# EAGLE library part PTN78060W (library PT)
PTN78060W : 3-A, Wide-Input, Adjustable Switching Regulator Module http://www.ti.com/lit/gpn/ptn78060w
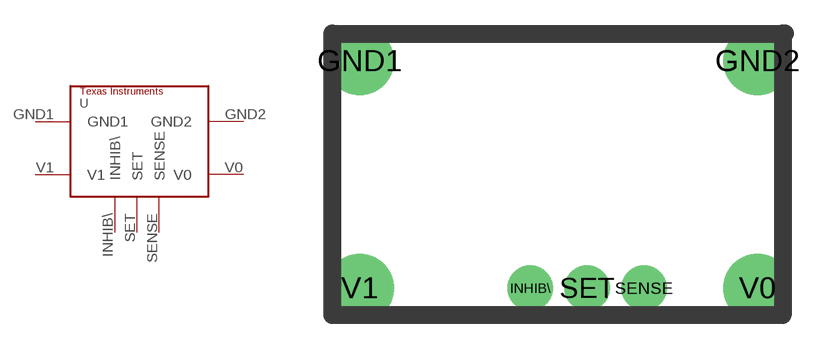
[diagram p0: symbol with the pads of PTN78060W; footprint PTN78060W]

Designator prefix -

## PTN78060W  [PTN78060W]
GND1  GND1
GND2  GND2
INHIB\  INHIB\
SENSE  SENSE
SET  SET
V0  V0
V1  V1

## Footprint PTN78060W (pad centres in mm)
drill 1.2 pad 3.81: GND1 1.524,-1.524; GND2 23.749,-1.524; V0 23.749,-14.224; V1 1.524,-14.224
drill 1.2 pad 2.54: INHIB\ 11.049,-14.224; SENSE 17.399,-14.224; SET 14.224,-14.224